# Altium footprint library TMS-104-02-L-S.PcbLib: 1 footprints
Each footprint in its own frame and in the unit in brackets; x right, y up, seen from the top. Pads: shape width x height; smd on the part's side, far side on the other; paste and mask are expansions set on the pad; w line width, h text height; cw(c..) or ccw(c..) is an arc to the next point about the centre after c.
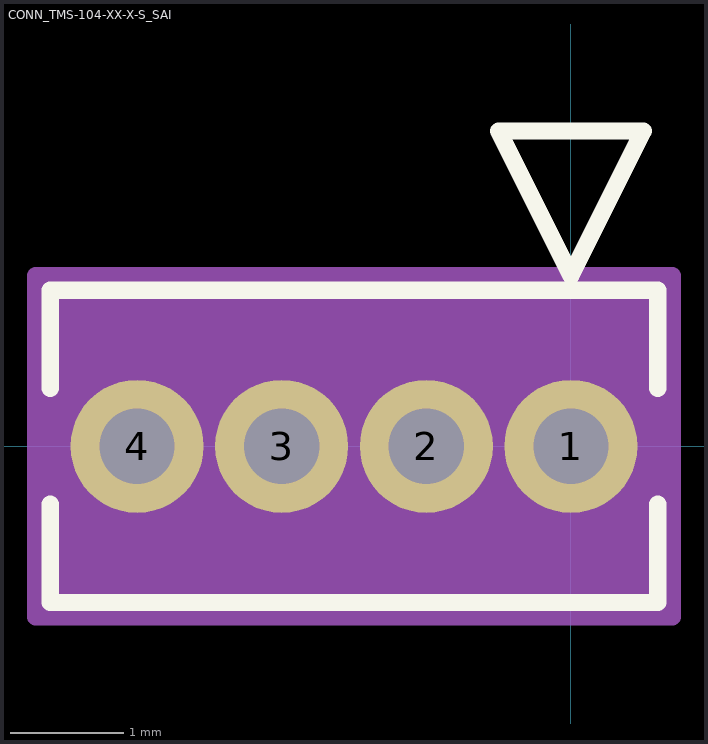
[diagram p0: the footprint, top view; thin cyan lines are the x and y axes]

## CONN_TMS-104-XX-X-S_SAI [mil]
pads (4):
  round 46 hole 26 mask+0: 1(0,0) 2(-50,0) 3(-100,0) 4(-150,0)
Top Overlay:
  lines w6: -180,-20.08 -180,-54 30,-54 30,-20.08 ; -180,20.08 -180,54 30,54 30,20.08 ; -25,109 0,59 25,109 -25,109
Mechanical 5:
  region: 32.5,-56.5 -182.5,-56.5 -182.5,56.5 32.5,56.5
Mechanical 13:
  lines w1: -175,-49 25,-49 25,49 -175,49 -175,-49 ; -25,109 0,59 25,109 -25,109
Mechanical 15:
  region: 35,59 -185,59 -185,-59 35,-59
  lines w6: -185,-59 -185,59 35,59 35,-59 -185,-59
3D body: height 10, standoff 0, extent 0,0 10,10